# EAGLE library part CSRA54215 (library Sparky)
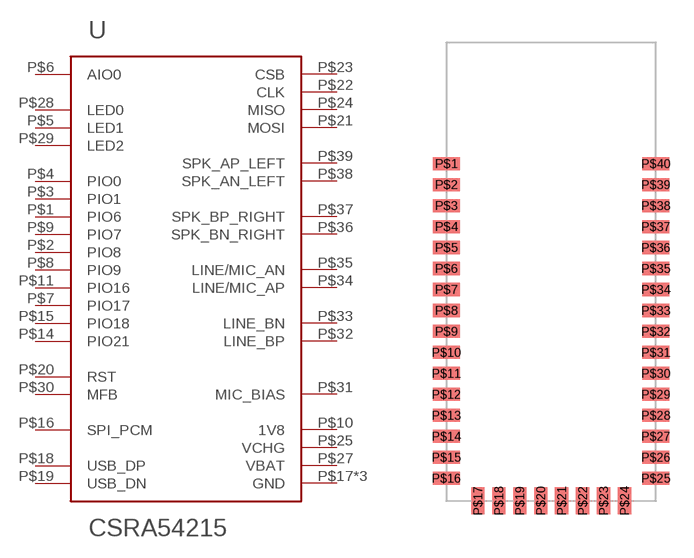
[diagram p16: symbol with the pads of CSRA64215; footprint CSRA64215]

Designator prefix -

## CSRA54215CSRA64215  [CSRA64215]
P$1  PIO6
P$2  PIO8
P$3  PIO1
P$4  PIO0
P$5  LED1
P$6  AIO0
P$7  PIO17
P$8  PIO9
P$9  PIO7
P$10  1V8
P$11  PIO16
P$14  PIO21
P$15  PIO18
P$16  SPI_PCM
P$17  GND
P$18  USB_DP
P$19  USB_DN
P$20  RST
P$21  MOSI
P$22  CLK
P$23  CSB
P$24  MISO
P$25  VCHG
P$26  GND
P$27  VBAT
P$28  LED0
P$29  LED2
P$30  MFB
P$31  MIC_BIAS
P$32  LINE_BP
P$33  LINE_BN
P$34  LINE/MIC_AP
P$35  LINE/MIC_AN
P$36  SPK_BN_RIGHT
P$37  SPK_BP_RIGHT
P$38  SPK_AN_LEFT
P$39  SPK_AP_LEFT
P$40  GND

## Footprint CSRA64215 (pad centres in mm)
smd 1.676 x 0.813: P$1 -6.5,20.9; P$2 -6.5,19.6; P$3 -6.5,18.3; P$4 -6.5,17; P$5 -6.5,15.7; P$6 -6.5,14.4; P$7 -6.5,13.1; P$8 -6.5,11.8; P$9 -6.5,10.5; P$10 -6.5,9.2; P$11 -6.5,7.9; P$12 -6.5,6.6; P$13 -6.5,5.3; P$14 -6.5,4; P$15 -6.5,2.7; P$16 -6.5,1.4; P$25 6.5,1.4; P$26 6.5,2.7; P$27 6.5,4; P$28 6.5,5.3; P$29 6.5,6.6; P$30 6.5,7.9; P$31 6.5,9.2; P$32 6.5,10.5; P$33 6.5,11.8; P$34 6.5,13.1; P$35 6.5,14.4; P$36 6.5,15.7; P$37 6.5,17; P$38 6.5,18.3; P$39 6.5,19.6; P$40 6.5,20.9
smd 0.813 x 1.676: P$17 -4.55,0; P$18 -3.25,0; P$19 -1.95,0; P$20 -0.65,0; P$21 0.65,0; P$22 1.95,0; P$23 3.25,0; P$24 4.55,0